# EAGLE library part LM394 (library ic)
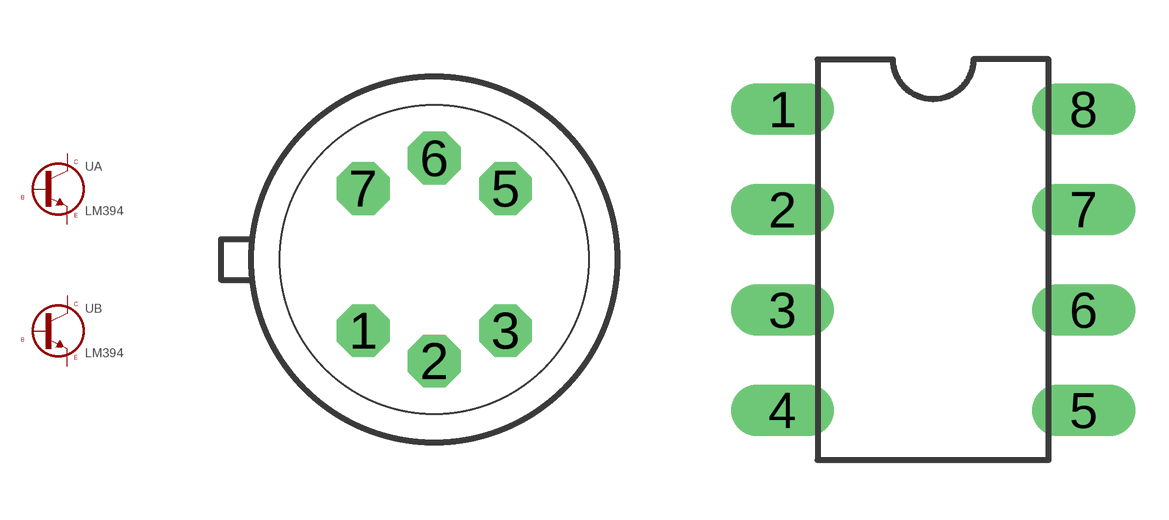
[diagram p42: symbol with the pads of TO99-6; footprints TO99-6, DIL08]

Designator prefix -; gates A=NPN B=NPN

## LM394  [TO99-6]
1  A:C  pas
2  A:B  pas
3  A:E  pas
5  B:E  pas
6  B:B  pas
7  B:C  pas

## LM394-DIP  [DIL08]
1  A:C  pas
2  A:B  pas
3  A:E  pas
6  B:E  pas
7  B:B  pas
8  B:C  pas

## Footprint TO99-6 (pad centres in mm)
drill 0.813 pad 1.27 octagon: 1 -1.778,-1.778; 2 0,-2.54; 3 1.778,-1.778; 5 1.778,1.778; 6 0,2.54; 7 -1.778,1.778

## Footprint DIL08 (pad centres in mm)
Dual In Line Package
drill 0.8 pad 1.27 long: 1 -3.81,3.81; 2 -3.81,1.27; 3 -3.81,-1.27; 4 -3.81,-3.81; 5 3.81,-3.81; 6 3.81,-1.27; 7 3.81,1.27; 8 3.81,3.81